# Altium schematic symbol library OP AMP MCP6231UT-E_OT.SchLib: 1 symbol
Pins are listed as number, name and electrical type; pins without a type are passive.

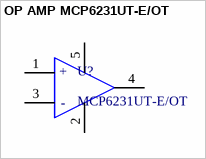
[diagram p0: symbol OP AMP MCP6231UT-E/OT]

## OP AMP MCP6231UT-E/OT
designator U?, comment MCP6231UT-E/OT
General Purpose Amplifier 1 Circuit Rail-to-Rail SOT-23-5; Mfr_Name: Microchip; Copyright: Copyright (C) 2021 Ultra Librarian. All rights reserved.; Manufacturer_Part_Number: MCP6231UT-E/OT; Digi-Key_Part_Number_1: MCP6231UT-E/OTCT-ND; Digi-Key_Part_Number_2: MCP6231UT-E/OTDKR-ND; Digi-Key_Part_Number_3: MCP6231UT-E/OTTR-ND; RefDes: RefDes; Type: DEV; Supplier 1: Digi-Key; Supplier Part Number 1: MCP6231UT-E/OTCT-ND
footprint SOT-23-5_MC_MCH-L
pins: 1 IN+ (hiz), 2 V- (power), 3 IN- (hiz), 4 OUT, 5 V+ (power)
text: +; -